# EAGLE library part MAAPSS0075 (library RADAR)
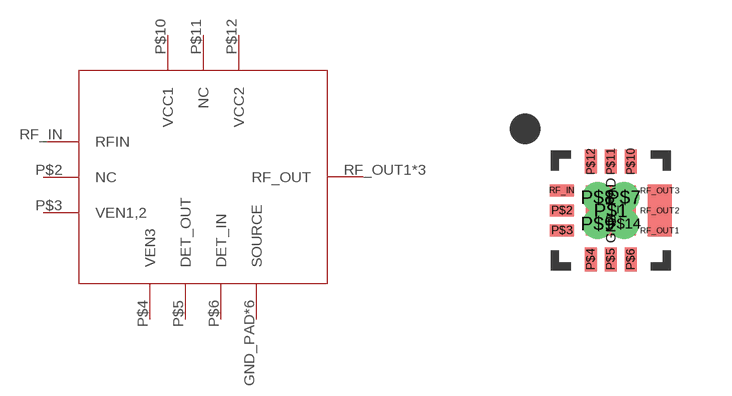
[diagram p1: symbol with the pads of MAAPSS075; footprint MAAPSS075]

Designator prefix -

## MAAPSS0075  [MAAPSS075]
GND_PAD  SOURCE
P$1  SOURCE
P$2  NC  nc
P$3  VEN1,2  in
P$4  VEN3  in
P$5  DET_OUT  out
P$6  DET_IN  in
P$7  SOURCE
P$8  SOURCE
P$9  SOURCE
P$10  VCC1  pwr
P$11  NC  nc
P$12  VCC2  pwr
P$14  SOURCE
RF_IN  RFIN  in
RF_OUT1  RF_OUT  oc
RF_OUT2  RF_OUT  oc
RF_OUT3  RF_OUT  oc

## Footprint MAAPSS075 (pad centres in mm)
smd 1.25 x 1.25: GND_PAD 0,0
drill 0.254 pad 0.305: P$1 0,0; P$7 0.33,0.33; P$8 -0.33,0.33; P$9 -0.33,-0.33; P$14 0.33,-0.33
smd 0.6 x 0.3: P$2 -1.225,0; P$3 -1.225,-0.5; RF_IN -1.225,0.5; RF_OUT1 1.225,-0.5; RF_OUT2 1.225,0; RF_OUT3 1.225,0.5
smd 0.3 x 0.6: P$4 -0.5,-1.225; P$5 0,-1.225; P$6 0.5,-1.225; P$10 0.5,1.225; P$11 0,1.225; P$12 -0.5,1.225